# EAGLE library part PIC16F690 (library my_tango)
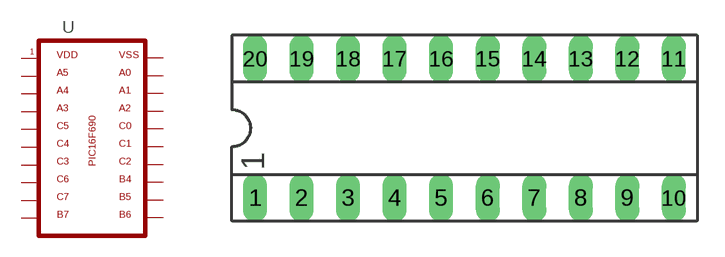
[diagram p11: symbol with the pads of SOCKED-20; footprint SOCKED-20]

Designator prefix -

## PIC16F690  [SOCKED-20]
1  VDD  pwr
2  A5
3  A4
4  A3  in
5  C5
6  C4
7  C3
8  C6
9  C7
10  B7
11  B6
12  B5
13  B4
14  C2
15  C1
16  C0
17  A2
18  A1
19  A0
20  VSS  pwr

## Footprint SOCKED-20 (pad centres in mm)
Dual In Line Socket
drill 0.813 long: 1 -11.43,-3.81; 2 -8.89,-3.81; 3 -6.35,-3.81; 4 -3.81,-3.81; 5 -1.27,-3.81; 6 1.27,-3.81; 7 3.81,-3.81; 8 6.35,-3.81; 9 8.89,-3.81; 10 11.43,-3.81; 11 11.43,3.81; 12 8.89,3.81; 13 6.35,3.81; 14 3.81,3.81; 15 1.27,3.81; 16 -1.27,3.81; 17 -3.81,3.81; 18 -6.35,3.81; 19 -8.89,3.81; 20 -11.43,3.81